# EAGLE library part MPT8 (library pluggable_terminal_blocks)
PHOENIX CONNECTOR
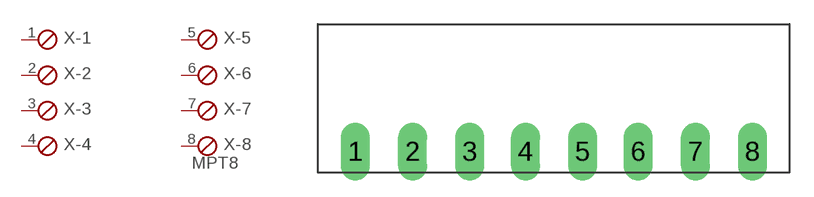
[diagram p2: symbol with the pads of 8POL35; footprint 8POL35]

Designator prefix X; gates -1=SKB -2=SKB -3=SKB -4=SKB -5=SKB -6=SKB -7=SKB -8=SKBV

## MPT8  [8POL35]
1  -1:1  pas
2  -2:1  pas
3  -3:1  pas
4  -4:1  pas
5  -5:1  pas
6  -6:1  pas
7  -7:1  pas
8  -8:1  pas

## Footprint 8POL35 (pad centres in mm)
PHOENIX CONNECTOR
drill 1.2 long: 1 -12.29,0; 2 -8.75,0; 3 -5.21,0; 4 -1.77,0; 5 1.77,0; 6 5.21,0; 7 8.75,0; 8 12.29,0